# Altium schematic symbol library CN 3.5MM JACK.Schlib: 1 symbol
Pins are listed as number, name and electrical type; pins without a type are passive.

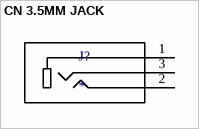
[diagram p0: symbol CN 3.5MM JACK]

## CN 3.5MM JACK
designator J?
CN JACK STEREO 3.5MM R/A; MF: CUI Devices; MP: SJ1-3523N; Digikey: CP1-3523N-ND; Digikey Link: https://www.digikey.ca/product-detail/en/cui-devices/SJ1-3523N/CP1-3523N-ND/738689; Supplier 1: Digi-Key; Supplier Part Number 1: CP1-3523N-ND
footprint CONN JACK STEREO 3.5MM R/A
pins: 1, 2, 3